# Altium schematic symbol library 45280-0801.SchLib: 1 symbol
Pins are listed as number, name and electrical type; pins without a type are passive.

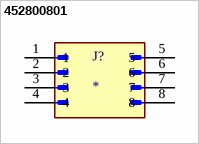
[diagram p0: symbol 452800801]

## 452800801
designator J?
MF: {'manufacturer': u'Molex'}; MP: 452800801; Price: None; Package: None; Availability: Unavailable; Value: *
footprint MOLEX_452800801
pins: 1, 2, 3, 4, 5, 6, 7, 8